# Altium integrated library LPEDT_Component_Lib.IntLib: 25 symbols
Pins are listed as number, name and electrical type; pins without a type are passive.

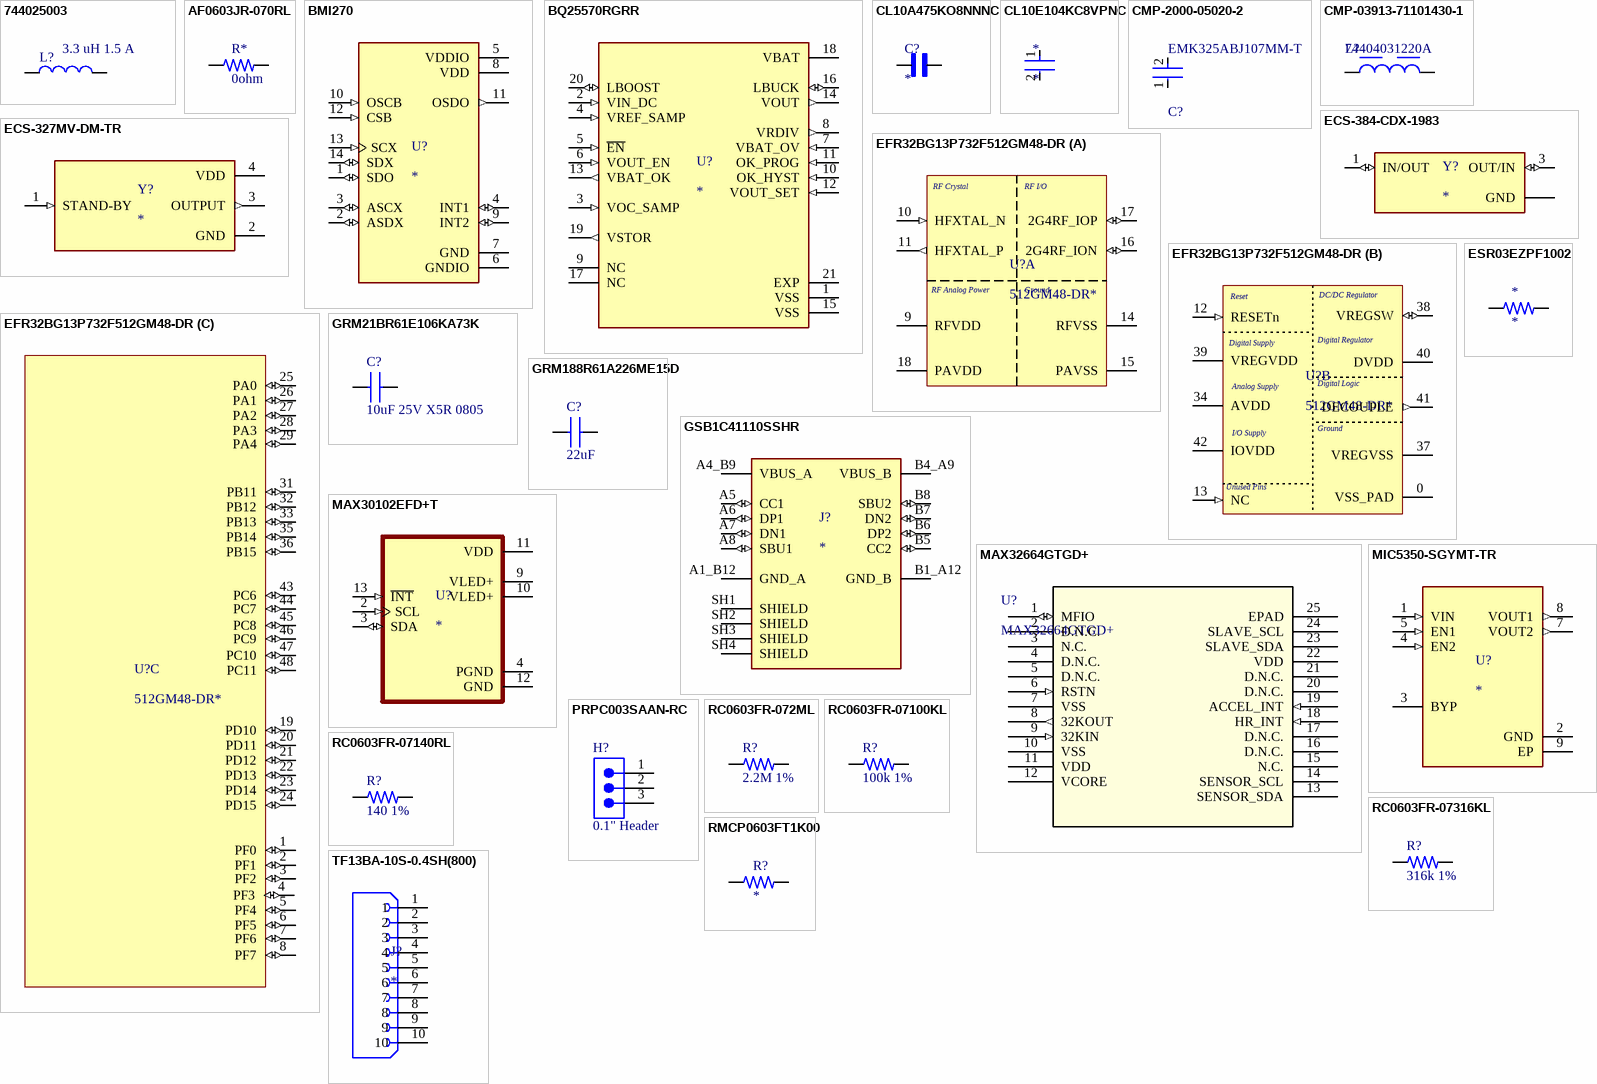
[diagram p0: symbols 744025003 to TF13BA-10S-0.4SH(800)]

## 744025003
designator L?, comment 3.3 uH 1.5 A
Power Choke Shielded Wirewound 3.3uH 20% 100KHz Ferrite 1.5A 101mOhm DCR T/R; Manufacturer: Wurth Elektronik; Manufacturer Part Number: 744025003; DC Resistance (DCR): 85mΩ; Value: 3.3µH; Self Resonant Frequency: 100MHz; Supplier: Newark; Supplier Part Number: 32T8554; RoHS: Compliant; Category: Fixed Inductors; Stock: 513; Pricing: 1=1.79, 10=1.73, 25=1.68, 50=1.62, 100=1.4, 250=1.29 (USD); Ambient Temperature Range High: 85°C; Ambient Temperature Range Low: -40°C; Current Rating: 1.5A; Height: 2.8mm; Inductance Tolerance: 20%; Length: 2.8mm; Max Operating Temperature: 125°C; Min Operating Temperature: -40°C; Pins: 2; Width: 2.8mm; ComponentLink1URL: https://datasheet.octopart.com:443/744025003-Wurth-Elektronik-datasheet-168487805.pdf?src-supplier=Farnell; ComponentLink1Description: https://datasheet.octopart.com:443/744025003-Wurth-Elektronik-datasheet-168487805.pdf?src-supplier=Farnell; ComponentLink2URL: https://datasheet.octopart.com:443/744025003-W%C3%BCrth-Elektronik-datasheet-41342287.pdf?src-supplier=Farnell; ComponentLink2Description: https://datasheet.octopart.com:443/744025003-W%C3%BCrth-Elektronik-datasheet-41342287.pdf?src-supplier=Farnell; ComponentLink3URL: https://datasheet.octopart.com:443/744025003-W%C3%BCrth-Elektronik-datasheet-11538326.pdf?src-supplier=RS+(Formerly+Allied+Electronics); ComponentLink3Description: https://datasheet.octopart.com:443/744025003-W%C3%BCrth-Elektronik-datasheet-11538326.pdf?src-supplier=RS+(Formerly+Allied+Electronics); ComponentLink4URL: https://datasheet.octopart.com:443/744025003-Wurth-Elektronik-datasheet-182429309.pdf?src-supplier=Newark; ComponentLink4Description: https://datasheet.octopart.com:443/744025003-Wurth-Elektronik-datasheet-182429309.pdf?src-supplier=Newark; ComponentLink5URL: https://datasheet.octopart.com:443/744025003-W%C3%BCrth-Elektronik-datasheet-21228163.pdf?src-supplier=Newark; ComponentLink5Description: https://datasheet.octopart.com:443/744025003-W%C3%BCrth-Elektronik-datasheet-21228163.pdf?src-supplier=Newark
footprint IND_2828x30 (Precision Wire Wound Inductor, 2-Leads, Body 2.80x2.80mm, IPC Medium Density)
pins: 1, 2

## AF0603JR-070RL
designator R*, comment 0ohm
100mW Thick Film Resistors 75V ±5% 0Ω 0603 Chip Resistor - Surface Mount ROHS
footprint RES_0603_1608X06
pins: 1, 2

## BMI270
designator U?
Accelerometer, Gyroscope, 6 Axis Sensor IÂ²C, SPI Output; MP: BMI270; MF: Bosch Sensortec; Digi-Key_Part_Number: 828-1091-2-ND; Check_prices: https://www.snapeda.com/parts/BMI270/Bosch+Sensortec/view-part/?ref=eda; Package: LGA-14 Bosch Sensortec; SnapEDA_Link: https://www.snapeda.com/parts/BMI270/Bosch+Sensortec/view-part/?ref=snap; Value: *; Purchase-URL: https://pricing.snapeda.com/search/part/BMI270/?ref=eda
footprint XDCR_BMI270
pins: 1 SDO (io), 2 ASDX (io), 3 ASCX (io), 4 INT1 (io), 5 VDDIO (power), 6 GNDIO (power), 7 GND (power), 8 VDD (power), 9 INT2 (io), 10 OSCB (in), 11 OSDO (out), 12 CSB (in), 13 SCX (in), 14 SDX (io)

## BQ25570RGRR
designator U?
Ultra Low power Harvester power Management IC with boost charger, and Nanopower Buck Converter; MF: Texas Instruments; MP: BQ25570RGRR; Package: VQFN-20 Texas Instruments; Value: *; Purchase-URL: https://pricing.snapeda.com/search/part/BQ25570RGRR/?ref=eda; Availability: In Stock; Check_prices: https://www.snapeda.com/parts/BQ25570RGRR/Texas+Instruments/view-part/?ref=eda; SnapEDA_Link: https://www.snapeda.com/parts/BQ25570RGRR/Texas+Instruments/view-part/?ref=snap; Price: None
footprint QFN50P350X350X100-21N
pins: 1 VSS (power), 2 VIN_DC (in), 3 VOC_SAMP (in), 4 VREF_SAMP (in), 5 ~{EN} (in), 6 VOUT_EN (in), 7 VBAT_OV (in), 8 VRDIV (out), 9 NC, 10 OK_HYST (in), 11 OK_PROG (in), 12 VOUT_SET (in), 13 VBAT_OK (out), 14 VOUT (out), 15 VSS (power), 16 LBUCK (io), 17 NC, 18 VBAT (power), 19 VSTOR (out), 20 LBOOST (io), 21 EXP

## CL10A475KO8NNNC
designator C?
4.7 ÂµF Â±10% 16V Ceramic Capacitor X5R 0603 (1608 Metric); MF: Samsung Electro-Mechanics; MP: CL10A475KO8NNNC; SnapEDA_Link: https://www.snapeda.com/parts/CL10A475KO8NNNC/Samsung/view-part/?ref=snap; Package: SMD-2 Samsung; Value: *; Check_prices: https://www.snapeda.com/parts/CL10A475KO8NNNC/Samsung/view-part/?ref=eda
footprint CAPC1608X90N
pins: 1, 2

## CL10E104KC8VPNC
designator *
Ceramic Capacitor, Multilayer, Ceramic, 100V, 10% +Tol, 10% -Tol, X8L, -40~+15% TC, 100nF, Surface Mount, 0603 inch; Manufacturer: Samsung Electro-Mechanics; Manufacturer Part Number: CL10E104KC8VPNC; Supplier: DigiKey; Supplier Part Number: 1276-CL10E104KC8VPNCCT-ND; RoHS: Compliant; Category: Ceramic Capacitors; Stock: 31004; Pricing: 1=0.25, 10=0.146, 50=0.1056, 100=0.0931, 500=0.07212, 1000=0.06732 (USD); Value: 100nF; Dielectric Material: Ceramic; Height: 800µm; Length: 1.6mm; Lifecycle Status: Production; Max Operating Temperature: 150°C; Min Operating Temperature: -55°C; Mounting Technology: Surface Mount; Number of Terminals: 2; REACH SVHC: Yes; Voltage Rating (DC): 100V; Width: 800µm
footprint CAP_0603_1MM
pins: 1, 2

## CMP-2000-05020-2
designator C?, comment EMK325ABJ107MM-T
CAP CER 100UF 16V X5R 1210; Manufacturer: Taiyo Yuden; Material: Ceramic; Temperature Coefficient: 15%; Tolerance: 20%; Ipc Land Pattern Name: CAPC320250X250; Package: EMK325A-M; Device Class L1: Passive Components; Height: 2.8mm; Device Class L2: Capacitors; Temperature Range Low: -55°C; RoHS: TRUE; Temperature Characteristic: X5R; Mouser Description: 1210 100 uF 16 V ±20% Tolerance X5R SMT Multilayer Ceramic Capacitor; ComponentLink2Description: Datasheet; Temperature: -55°C to +85°C; Device Class L3: Ceramic Capacitors; Capacitance: 100uF; Lead Free: Yes; Category: Cap; Octopart: https://octopart.com/emk325abj107mm-t-taiyo+yuden-20815747; Temperature Range High: +85°C; Automotive: No; Manufacturer Part Number: EMK325ABJ107MM-T; Value: 100uF; Digikey Description: CAP CER 100UF 16V X5R 1210; Voltage Rating: 16V; ComponentLink2URL: https://www.yuden.co.jp/productdata/catalog/mlcc01_e.pdf
footprint FP-1206-L_3_2_0_3-W_1_6_0-IPC_A
pins: 1, 2

## CMP-03913-71101430-1
designator L?, comment 74404031220A
100mW Thick Film Resistors 75V ±5% 0Ω 0603 Chip Resistor - Surface Mount ROHS; NexarPartId: 71101430; Manufacturer: Yageo Group; Manufacturer Part Number: AF0603JR-070RL; RMS Current (Irms): 740mA; Self Resonant Frequency: 36MHz; Inductance: 22µH; DC Resistance (DCR): 420mΩ; Current Rating: 600mA; Inductance Tolerance: 20%; Saturation Current: 430mA; Shielding: Shielded; Test Frequency: 100kHz; RoHS: Compliant; Height - Seated (Max): 1.1938mm; Height: 1.2mm; REACH SVHC: Unknown; Min Operating Temperature: -40°C; Length: 3mm; Width: 3mm; Ambient Temperature Range Low: -40°C; Max Operating Temperature: 125°C; Mount: Surface Mount; Tolerance: 20%; Composition: Wirewound; Case/Package: Nonstandard; Ambient Temperature Range High: 85°C; Supplier: Avnet; Supplier Part Number: 49AK6954; Category: Chip SMD Resistors; Stock: 1554; Pricing: 1=0.104, 25=0.009, 50=0.008, 100=0.007 (USD); China RoHS: Non-Compliant; Features: Anti-Sulfur, Moisture Resistant; Lifecycle Status: Production; Max Power Dissipation: 100mW; Mounting Technology: Surface Mount; Number of Terminals: 2; Number of Terminations: 2; Packaging: Tape & Reel; Power Dissipation: 100mW; Power Rating: 100mW; Value: 0Ω; Voltage Rating: 75V; ComponentLink1URL: https://datasheet.octopart.com:443/AF0603JR-070RL-Yageo-Group-datasheet-182189395.pdf?src-supplier=IHS; ComponentLink1Description: https://datasheet.octopart.com:443/AF0603JR-070RL-Yageo-Group-datasheet-182189395.pdf?src-supplier=IHS; ComponentLink2URL: https://datasheet.octopart.com:443/AF0603JR-070RL-Yageo-datasheet-182189397.pdf?src-supplier=IHS; ComponentLink2Description: https://datasheet.octopart.com:443/AF0603JR-070RL-Yageo-datasheet-182189397.pdf?src-supplier=IHS; ComponentLink3URL: https://datasheet.octopart.com:443/AF0603JR-070RL-Yageo-datasheet-153645569.pdf?src-supplier=Upverter; ComponentLink3Description: https://datasheet.octopart.com:443/AF0603JR-070RL-Yageo-datasheet-153645569.pdf?src-supplier=Upverter; ComponentLink4URL: https://sigma.octopart.com:443/138820526/technical_drawing/Yageo-AF0603JR-070RL.pdf?src-supplier=Upverter; ComponentLink4Description: https://sigma.octopart.com:443/138820526/technical_drawing/Yageo-AF0603JR-070RL.pdf?src-supplier=Upverter; ComponentLink5URL: https://datasheet.octopart.com:443/AF0603JR-070RL-Yageo-Group-datasheet-183876366.pdf?src-supplier=TME; ComponentLink5Description: https://datasheet.octopart.com:443/AF0603JR-070RL-Yageo-Group-datasheet-183876366.pdf?src-supplier=TME; ComponentLink6URL: https://datasheet.octopart.com/AF0603JR-070RL-Yageo-datasheet-68296209.pdf; ComponentLink6Description: https://datasheet.octopart.com/AF0603JR-070RL-Yageo-datasheet-68296209.pdf; ComponentLink7URL: https://datasheet.octopart.com:443/AF0603JR-070RL-Yageo-datasheet-164730775.pdf?src-supplier=Future+Electronics; ComponentLink7Description: https://datasheet.octopart.com:443/AF0603JR-070RL-Yageo-datasheet-164730775.pdf?src-supplier=Future+Electronics; ComponentLink8URL: https://datasheet.octopart.com:443/AF0603JR-070RL-Yageo-datasheet-137315688.pdf?src-supplier=Future+Electronics; ComponentLink8Description: https://datasheet.octopart.com:443/AF0603JR-070RL-Yageo-datasheet-137315688.pdf?src-supplier=Future+Electronics; ComponentLink9URL: https://datasheet.octopart.com:443/AF0603JR-070RL-Yageo-datasheet-137481464.pdf?src-supplier=Future+Electronics; ComponentLink9Description: https://datasheet.octopart.com:443/AF0603JR-070RL-Yageo-datasheet-137481464.pdf?src-supplier=Future+Electronics; ComponentLink10URL: http://sigma.octopart.com:80/rohs_statement/Yageo-company-2.pdf?src-supplier=Compliance+Statements; ComponentLink10Description: http://sigma.octopart.com:80/rohs_statement/Yageo-company-2.pdf?src-supplier=Compliance+Statements; ComponentLink11URL: http://sigma.octopart.com:80/conflict_mineral_statement/Yageo-company-3.pdf?src-supplier=Compliance+Statements; ComponentLink11Description: http://sigma.octopart.com:80/conflict_mineral_statement/Yageo-company-3.pdf?src-supplier=Compliance+Statements
footprint WE-LQS_3012 (SMD Power Inductor, 2-Leads, body 3x3mm)
pins: 1, 2

## ECS-327MV-DM-TR
designator Y?
32.768 kHz XO (Standard) CMOS Oscillator Enable/Disable 4-SMD, No Lead; MF: ECS Inc.; MP: ECS-327MV-DM-TR; Purchase-URL: https://pricing.snapeda.com/search/part/ECS-327MV-DM-TR/?ref=eda; SnapEDA_Link: https://www.snapeda.com/parts/ECS-327MV-DM-TR/ECS+Inc./view-part/?ref=snap; Value: *; Package: None; Check_prices: https://www.snapeda.com/parts/ECS-327MV-DM-TR/ECS+Inc./view-part/?ref=eda; Digi-Key_Part_Number: 50-ECS-327MV-DM-TR-ND
footprint OSC_ECS-327MV-DM-TR-4
pins: 1 STAND-BY (in), 2 GND (power), 3 OUTPUT (out), 4 VDD (power)

## ECS-384-CDX-1983
designator Y?
MP: ECS-384-CDX-1983; Package: None; Price: None; Value: *; Availability: Unavailable
footprint XTAL_ECS-384-CDX-1983
pins: 1 IN/OUT (io), 2 GND (power), 3 OUT/IN (io), 4 GND (power)

## EFR32BG13P732F512GM48-DR
designator U?, comment 512GM48-DR*
Blue Gecko QFN48 2.4 G 19 dB BLE/Proprietary 512 kB 64 kB(RAM) 31GPIO; Manufacturer: Silicon Labs; Manufacturer Part Number: EFR32BG13P732F512GM48-DR; Manufacturer Lifecycle Status: FULL PRODUCTION; Flash Memory Size: 512kB; Max Supply Voltage: 3.8V; Min Supply Voltage: 1.8V; Number of Digital IO: 31; Number of I2C Channels: 2; Number of SPI Channels: 3; Number of UART Channels: 8; Number of USART Channels: 4; Operating Supply Voltage: 3.3V; RAM Size: 64kB; Supplier: DigiKey; Supplier Part Number: 336-EFR32BG13P732F512GM48-DRCT-ND; RoHS: Compliant; Category: System on Chip (SoC); Stock: 8802; Pricing: 1=7.38, 10=6.396, 25=6.0548, 100=5.586, 250=5.30508, 500=5.10674, 1000=4.91994 (USD); Height - Seated (Max): 900µm; Length: 7mm; Lifecycle Status: Production; Max Operating Temperature: 85°C; Min Operating Temperature: -40°C; Number of GPIO: 31; Number of Terminals: 48; Terminal Pitch: 500µm; Width: 7mm; ComponentLink1URL: https://datasheet.octopart.com:443/EFR32BG13P732F512GM48-DR-Silicon-Labs-datasheet-180782262.pdf?src-supplier=IHS; ComponentLink1Description: https://datasheet.octopart.com:443/EFR32BG13P732F512GM48-DR-Silicon-Labs-datasheet-180782262.pdf?src-supplier=IHS; ComponentLink2URL: https://datasheet.octopart.com:443/EFR32BG13P732F512GM48-DR-Silicon-Labs-datasheet-150822224.pdf?src-supplier=Silicon+Labs; ComponentLink2Description: https://datasheet.octopart.com:443/EFR32BG13P732F512GM48-DR-Silicon-Labs-datasheet-150822224.pdf?src-supplier=Silicon+Labs; ComponentLink3URL: https://datasheet.octopart.com:443/EFR32BG13P732F512GM48-DR-Silicon-Labs-datasheet-142345357.pdf?src-supplier=Silicon+Labs+SCT; ComponentLink3Description: https://datasheet.octopart.com:443/EFR32BG13P732F512GM48-DR-Silicon-Labs-datasheet-142345357.pdf?src-supplier=Silicon+Labs+SCT; ComponentLink4URL: https://datasheet.octopart.com:443/EFR32BG13P732F512GM48-DR-Silicon-Labs-datasheet-150822225.pdf?src-supplier=Farnell; ComponentLink4Description: https://datasheet.octopart.com:443/EFR32BG13P732F512GM48-DR-Silicon-Labs-datasheet-150822225.pdf?src-supplier=Farnell
footprint QFN_48_7x7 (BLUE GECKO QFN48 2.4GHz 512KB 6)
part A pins: 9 RFVDD (power) "Radio power supply", 10 HFXTAL_N  (in) "High Frequency Crystal input pin.", 11 HFXTAL_P (out) "High Frequency Crystal output pin.", 14 RFVSS (power) "Radio Ground", 15 PAVSS (power) "Power Amplifier (PA) voltage regulator / VSS", 16 2G4RF_ION (io) "2.4 GHz Differential RF input/output, / negative path. This pin should be externally grounded.", 17 2G4RF_IOP (io) "2.4 GHz Differential RF input/output, / positive path.", 18 PAVDD (power) "Power Amplifier (PA) voltage regulator / VDD input"
part B pins: 0 VSS_PAD (power) "Ground", 12 RESETn (in) "Reset input, active low. This pin is internally / pulled up to AVDD. To apply an / external reset source to this pin, it is required / to only drive this pin low during / reset, and let the internal pull-up ensure / that reset is released.", 13 NC (in) "No Connect", 34 AVDD (power) "Analog power supply.", 37 VREGVSS (power) "Voltage regulator VSS", 38 VREGSW (io) "DCDC regulator switching node", 39 VREGVDD (power) "Voltage regulator VDD input", 40 DVDD (power) "Digital power supply.", 41 DECOUPLE (out) "Decouple output for on-chip voltage / regulator. An external decoupling capacitor / is required at this pin. This pin / should not be used to power any external / circuits.", 42 IOVDD (power) "Digital IO power supply."
part C pins: 1 PF0 (io) "GPIO", 2 PF1 (io) "GPIO", 3 PF2 (io) "GPIO", 4 PF3 (io) "GPIO", 5 PF4 (io) "GPIO", 6 PF5 (io) "GPIO", 7 PF6 (io) "GPIO", 8 PF7 (io) "GPIO", 19 PD10 (io) "GPIO", 20 PD11 (io) "GPIO", 21 PD12 (io) "GPIO", 22 PD13 (io) "GPIO", 23 PD14 (io) "GPIO", 24 PD15 (io) "GPIO", 25 PA0 (io) "GPIO", 26 PA1 (io) "GPIO", 27 PA2 (io) "GPIO", 28 PA3 (io) "GPIO", 29 PA4 (io) "GPIO", 31 PB11 (io) "GPIO", 32 PB12 (io) "GPIO", 33 PB13 (io) "GPIO", 35 PB14 (io) "GPIO", 36 PB15 (io) "GPIO", 43 PC6 (io) "GPIO", 44 PC7 (io) "GPIO", 45 PC8 (io) "GPIO", 46 PC9 (io) "GPIO", 47 PC10 (io) "GPIO", 48 PC11 (io) "GPIO"
part A text: RF Crystal; RF I/O; RF Analog Power; Ground
part B text: Reset; DC/DC Regulator; Digital Supply; Digital Regulator; Analog Supply; Digital Logic; I/O Supply; Ground; Unused Pins

## ESR03EZPF1002
designator *
Res Thick Film 0603 10K Ohm 1% 0.25W(1/4W) ±100ppm/C Epoxy Resin Pad SMD Automotive T/R; Manufacturer: ROHM; Manufacturer Part Number: ESR03EZPF1002; Max Power Dissipation: 250mW; Value: 10kΩ; Temperature Coefficient: 100ppm/°C; Voltage Rating (DC): 150V; Supplier: DigiKey; Supplier Part Number: RHM10KADCT-ND; RoHS: Compliant; Category: Chip SMD Resistors; Stock: 1713898; Pricing: 1=0.15, 10=0.075, 25=0.0584, 50=0.049, 100=0.0418, 250=0.03444, 500=0.03024, 1000=0.02693 (USD); Case/Package: 0603; Case Code (Imperial): 0603; Case Code (Metric): 1608; Composition: Thick Film; Features: Automotive AEC-Q200; Height: 450µm; Lead Free: Lead Free; Length: 1.6002mm; Lifecycle Status: Production; Max Operating Temperature: 155°C; Min Operating Temperature: -55°C; Mounting Technology: Surface Mount; Number of Terminals: 2; Number of Terminations: 2; Packaging: Cut Tape (CT); Power Dissipation: 250mW; Power Rating: 250mW; REACH SVHC: Yes; Tolerance: 1%; Width: 800µm; Working Voltage: 150V; ComponentLink1URL: https://datasheet.octopart.com:443/ESR03EZPF1002-ROHM-datasheet-182147623.pdf?src-supplier=IHS; ComponentLink1Description: https://datasheet.octopart.com:443/ESR03EZPF1002-ROHM-datasheet-182147623.pdf?src-supplier=IHS; ComponentLink2URL: https://datasheet.octopart.com:443/ESR03EZPF1002-Rohm-datasheet-138897445.pdf?src-supplier=Upverter; ComponentLink2Description: https://datasheet.octopart.com:443/ESR03EZPF1002-Rohm-datasheet-138897445.pdf?src-supplier=Upverter; ComponentLink3URL: https://datasheet.octopart.com:443/ESR03EZPF1002-Rohm-datasheet-112214108.pdf?src-supplier=Newark; ComponentLink3Description: https://datasheet.octopart.com:443/ESR03EZPF1002-Rohm-datasheet-112214108.pdf?src-supplier=Newark; ComponentLink4URL: https://datasheet.octopart.com:443/ESR03EZPF1002-Rohm-datasheet-98864137.pdf?src-supplier=Future+Electronics; ComponentLink4Description: https://datasheet.octopart.com:443/ESR03EZPF1002-Rohm-datasheet-98864137.pdf?src-supplier=Future+Electronics; ComponentLink5URL: https://datasheet.octopart.com:443/ESR03EZPF1002-Rohm-datasheet-79607656.pdf?src-supplier=Future+Electronics; ComponentLink5Description: https://datasheet.octopart.com:443/ESR03EZPF1002-Rohm-datasheet-79607656.pdf?src-supplier=Future+Electronics; ComponentLink6URL: https://datasheet.octopart.com:443/ESR03EZPF1002-Rohm-datasheet-13205105.pdf?src-supplier=Future+Electronics; ComponentLink6Description: https://datasheet.octopart.com:443/ESR03EZPF1002-Rohm-datasheet-13205105.pdf?src-supplier=Future+Electronics; ComponentLink7URL: https://datasheet.octopart.com:443/ESR03EZPF1002-Rohm-datasheet-12521351.pdf?src-supplier=Future+Electronics; ComponentLink7Description: https://datasheet.octopart.com:443/ESR03EZPF1002-Rohm-datasheet-12521351.pdf?src-supplier=Future+Electronics
footprint RES_0603_1608X06
pins: 1, 2

## GRM21BR61E106KA73K
designator C?, comment 10uF 25V X5R 0805
Ceramic Capacitor, Ceramic, 25V, 10% +Tol, 10% -Tol, X5R, 15% TC, 10uF, Surface Mount, 0805; Manufacturer: Murata; Manufacturer Part Number: GRM21BR61E106KA73K; Manufacturer Lifecycle Status: IN PRODUCTION; Value: 10µF; Supplier: Avnet; Supplier Part Number: GRM21BR61E106KA73K; RoHS: Compliant; Category: Ceramic Capacitors; Stock: 54000; Pricing: 10000=0.01987, 20000=0.01911, 40000=0.01892, 60000=0.01882, 80000=0.01872 (USD); Case/Package: 0805; Dielectric: X5R; Dielectric Material: Ceramic; Height: 1.25mm; Length: 2mm; Lifecycle Status: Production; Material: Ceramic; Max Operating Temperature: 85°C; Min Operating Temperature: -55°C; Mounting Technology: Surface Mount; Number of Terminals: 2; Packaging: Tape & Reel (TR); REACH SVHC: Yes; Schedule B: 8532240020, 8532240020|8532240020, 8532240020|8532240020|8532240020, 8532240020|8532240020|8532240020|8532240020; Thickness: 1.25mm; Tolerance: 10%; Voltage Rating: 25V; Voltage Rating (DC): 25V; Weight: 9.49709mg; Width: 1.25mm; ComponentLink1URL: https://datasheet.octopart.com:443/GRM21BR61E106KA73K-Murata-datasheet-149523495.pdf?src-supplier=Newark; ComponentLink1Description: https://datasheet.octopart.com:443/GRM21BR61E106KA73K-Murata-datasheet-149523495.pdf?src-supplier=Newark; ComponentLink2URL: https://datasheet.octopart.com:443/GRM21BR61E106KA73K-Murata-datasheet-141278247.pdf?src-supplier=Geoflip; ComponentLink2Description: https://datasheet.octopart.com:443/GRM21BR61E106KA73K-Murata-datasheet-141278247.pdf?src-supplier=Geoflip; ComponentLink3URL: https://datasheet.octopart.com:443/GRM21BR61E106KA73K-Murata-datasheet-165579666.pdf?src-supplier=TME; ComponentLink3Description: https://datasheet.octopart.com:443/GRM21BR61E106KA73K-Murata-datasheet-165579666.pdf?src-supplier=TME; ComponentLink4URL: https://datasheet.octopart.com:443/GRM21BR61E106KA73K-Murata-datasheet-140707569.pdf?src-supplier=Ciiva; ComponentLink4Description: https://datasheet.octopart.com:443/GRM21BR61E106KA73K-Murata-datasheet-140707569.pdf?src-supplier=Ciiva; ComponentLink5URL: https://datasheet.octopart.com:443/GRM21BR61E106KA73K-Murata-datasheet-138744870.pdf?src-supplier=Ciiva; ComponentLink5Description: https://datasheet.octopart.com:443/GRM21BR61E106KA73K-Murata-datasheet-138744870.pdf?src-supplier=Ciiva; ComponentLink6URL: https://datasheet.octopart.com:443/GRM21BR61E106KA73K-Murata-datasheet-99353849.pdf?src-supplier=Future+Electronics; ComponentLink6Description: https://datasheet.octopart.com:443/GRM21BR61E106KA73K-Murata-datasheet-99353849.pdf?src-supplier=Future+Electronics; ComponentLink7URL: https://datasheet.octopart.com/GRM21BR61E106KA73K-Murata-datasheet-12515295.pdf; ComponentLink7Description: https://datasheet.octopart.com/GRM21BR61E106KA73K-Murata-datasheet-12515295.pdf; ComponentLink8URL: https://datasheet.octopart.com/GRM21BR61E106KA73K-Murata-datasheet-12510076.pdf; ComponentLink8Description: https://datasheet.octopart.com/GRM21BR61E106KA73K-Murata-datasheet-12510076.pdf; ComponentLink9URL: https://datasheet.octopart.com/GRM21BR61E106KA73K-Murata-datasheet-11978611.pdf; ComponentLink9Description: https://datasheet.octopart.com/GRM21BR61E106KA73K-Murata-datasheet-11978611.pdf; ComponentLink10URL: https://datasheet.octopart.com/GRM21BR61E106KA73K-Murata-datasheet-10025737.pdf; ComponentLink10Description: https://datasheet.octopart.com/GRM21BR61E106KA73K-Murata-datasheet-10025737.pdf; ComponentLink11URL: https://datasheet.octopart.com/GRM21BR61E106KA73K-Murata-datasheet-8819587.pdf; ComponentLink11Description: https://datasheet.octopart.com/GRM21BR61E106KA73K-Murata-datasheet-8819587.pdf; ComponentLink12URL: https://datasheet.octopart.com/GRM21BR61E106KA73K-Murata-datasheet-14397508.pdf; ComponentLink12Description: https://datasheet.octopart.com/GRM21BR61E106KA73K-Murata-datasheet-14397508.pdf; ComponentLink13URL: http://sigma.octopart.com:80/reach_statement/Murata-company-16.pdf?src-supplier=Compliance+Statements; ComponentLink13Description: http://sigma.octopart.com:80/reach_statement/Murata-company-16.pdf?src-supplier=Compliance+Statements
footprint CAP_0805 (Chip Capacitor, 2-Leads, Body 2.00x1.23mm, IPC Medium Density)
pins: 1, 2

## GRM188R61A226ME15D
designator C?, comment 22uF
CAP CER 22UF 10V X5R 0603; Manufacturer: Murata; Manufacturer Part Number: GRM188R61A226ME15D; Voltage Rating DC: 10 VDC; Tolerance: 20 %; Brand: Murata Electronics; Type: Voltage and Temperature Derating Recommended Product; Unit Weight: 0.000222 oz; Supplier 1: Digi-Key; Supplier Part Number 1: 490-10476-1-ND; Stock 1: 849458; Pricing 1: 1=0.33, 10=0.226, 50=0.1506, 100=0.1279, 500=0.0903, 1000=0.079 (USD); Product Category: Multilayer Ceramic Capacitors MLCC - SMD/SMT; RoHS: True; Capacitance: 22 uF; Dielectric: X5R; Case Code - in: 0603; Case Code - mm: 1608; Height: 0.8 mm; Maximum Operating Temperature: + 85 C; Minimum Operating Temperature: - 55 C; Product: General Type MLCCs; Series: GRM; Packaging: Reel; Length: 1.6 mm; Package / Case: 0603 (1608 metric); Factory Pack Quantity: 4000; Termination Style: SMD/SMT; Width: 0.8 mm; ComponentLink1URL: http://www.farnell.com/datasheets/2047978.pdf?src-supplier=Element14; ComponentLink1Description: http://www.farnell.com/datasheets/2047978.pdf?src-supplier=Element14
footprint CAP_0603_1MM (Chip Capacitor, 2-Leads, Body 1.60x0.80mm, IPC Medium Density)
pins: 1, 2

## GSB1C41110SSHR
designator J?
USB2.0, Type C, Top mount, Center Height 1.63mm, Single Row Surface Mount; MF: Amphenol Canada; MP: GSB1C41110SSHR; SnapEDA_Link: https://www.snapeda.com/parts/GSB1C41110SSHR/Amphenol/view-part/?ref=snap; Package: None; Value: *; Check_prices: https://www.snapeda.com/parts/GSB1C41110SSHR/Amphenol/view-part/?ref=eda
footprint AMPHENOL_GSB1C41110SSHR
pins: A1_B12 GND_A (power), A4_B9 VBUS_A (power), A5 CC1 (io), A6 DP1 (io), A7 DN1 (io), A8 SBU1 (io), B1_A12 GND_B (power), B4_A9 VBUS_B (power), B5 CC2 (io), B6 DP2 (io), B7 DN2 (io), B8 SBU2 (io), SH1 SHIELD, SH2 SHIELD, SH3 SHIELD, SH4 SHIELD

## MAX30102EFD+T
designator U?
Pulse Oximeter and Heart Rate Sensor Digital Output; MP: MAX30102EFD+T; MF: Maxim Integrated Products; Digi-Key_Part_Number: MAX30102EFD+TTR-ND; Check_prices: https://www.snapeda.com/parts/MAX30102EFD+T/Maxim+Integrated/view-part/?ref=eda; Package: None; SnapEDA_Link: https://www.snapeda.com/parts/MAX30102EFD+T/Maxim+Integrated/view-part/?ref=snap; Value: *; Purchase-URL: https://pricing.snapeda.com/search/part/MAX30102EFD+T/?ref=eda
footprint XDCR_MAX30101EFD+
pins: 2 SCL (in), 3 SDA (io), 4 PGND (power), 9 VLED+ (power), 10 VLED+ (power), 11 VDD (power), 12 GND (power), 13 ~{INT} (in)

## MAX32664GTGD+
designator U?
Ultra-Low Power Biometric Sensor Hub; Manufacturer_Name: Analog Devices Inc; Copyright: Copyright (C) 2025 Ultra Librarian. All rights reserved.; Manufacturer_Part_Number: MAX32664GTGD+; RefDes: RefDes; Type: Type
footprint 21-100264_T2433+2C_MXM
pins: 1 MFIO (io), 2 D.N.C., 3 N.C., 4 D.N.C., 5 D.N.C., 6 RSTN (in), 7 VSS (power), 8 32KOUT (out), 9 32KIN (in), 10 VSS (power), 11 VDD (power), 12 VCORE (power), 13 SENSOR_SDA, 14 SENSOR_SCL, 15 N.C., 16 D.N.C., 17 D.N.C., 18 HR_INT (in), 19 ACCEL_INT (in), 20 D.N.C., 21 D.N.C., 22 VDD (power), 23 SLAVE_SDA, 24 SLAVE_SCL, 25 EPAD (power)

## MIC5350-SGYMT-TR
designator U?
Linear Voltage Regulator IC Positive Fixed 2 Output 300mA, 500mA 8-TMLFÂ® (2x2); MF: Microchip; MP: MIC5350-SGYMT-TR; SnapEDA_Link: https://www.snapeda.com/parts/MIC5350-SGYMT-TR/Microchip/view-part/?ref=snap; Package: UFDFN-8 Microchip; Value: *; Check_prices: https://www.snapeda.com/parts/MIC5350-SGYMT-TR/Microchip/view-part/?ref=eda
footprint SON50P200X200X60-9N
pins: 1 VIN (in), 2 GND (power), 3 BYP, 4 EN2 (in), 5 EN1 (in), 7 VOUT2 (out), 8 VOUT1 (out), 9 EP (power)

## PRPC003SAAN-RC
designator H?, comment 0.1" Header
CONN HEADER VERT 3POS 2.54MM; Manufacturer: Sullins; Manufacturer Part Number: PRPC003SAAN-RC; Connector Type: Header, Unshrouded, Breakaway; Number of Positions: 3; Number of Positions Loaded: All; Pitch: 0.100" (2.54mm); Online Catalog: 0.100" (2.54mm) Pitch Connector Headers; Other Names: S9510E-03  S9510E-03-ND; Supplier 1: Digi-Key; Stock 1: 19067; Pricing 1: 1=0.12, 10=0.109, 25=0.0812, 50=0.0696, 100=0.0673, 250=0.058, 500=0.0557 (USD); Standard Package: 1; Category: Connectors, Interconnects; Family: Rectangular Connectors - Headers, Male Pins; Series: -; Packaging: Bulk; Contact Type: Male Pin; Number of Rows: 1; Row Spacing: -; Contact Mating Length: 0.230" (5.84mm); Mounting Type: Through Hole; Termination: Solder; Fastening Type: -; Features: -; Contact Finish: Gold; Contact Finish Thickness: Flash; Color: Black; ComponentLink1URL: https://media.digikey.com/PDF/Data%20Sheets/Sullins%20PDFs/xRxCzzzSxxN-RC_ST_11635-B.pdf?src-supplier=Digi-Key; ComponentLink1Description: https://media.digikey.com/PDF/Data%20Sheets/Sullins%20PDFs/xRxCzzzSxxN-RC_ST_11635-B.pdf?src-supplier=Digi-Key; Supplier Part Number 1: S1011EC-03-ND
footprint 3-PIN_MALE_HEADER_01-IN (.025 SQ Post Terminal Strip Assembly, 1x3 Pins, Vertical, 2.54mm Pitch, Male)
pins: 1, 2, 3

## RC0603FR-072ML
designator R?, comment 2.2M 1%
100mW Thick Film Resistors 75V ±100ppm/℃ ±1% 2MΩ 0603 Chip Resistor - Surface Mount ROHS; Manufacturer: Yageo Group; Manufacturer Part Number: RC0603FR-072ML; Temperature Coefficient: 100ppm/°C; Voltage Rating (DC): 50V; Supplier: Avnet; Supplier Part Number: 49AK1931; RoHS: Compliant; Category: Chip SMD Resistors; Stock: 4010; Pricing: 1=0.104, 25=0.009, 50=0.008, 100=0.006 (USD); Case/Package: 0603; Case Code (Imperial): 0603; China RoHS: Non-Compliant; Composition: Thick Film; Depth: 800µm; Features: Moisture Resistant; Height: 450µm; Lead Free: Lead Free; Length: 1.6mm; Lifecycle Status: Production; Max Operating Temperature: 155°C; Max Power Dissipation: 100mW; Min Operating Temperature: -55°C; Mounting Technology: Surface Mount; Number of Terminals: 2; Number of Terminations: 2; Packaging: Tape & Reel; Power Dissipation: 100mW; Power Rating: 100mW; REACH SVHC: Yes; Value: 2MΩ; Schedule B: 8533210045, 8533210045|8533210045, 8533210045|8533210045|8533210045, 8533210045|8533210045|8533210045|8533210045; Termination: SMD/SMT; Tolerance: 1%; Voltage Rating: 75V; Weight: 2.012816mg; Width: 800µm; Working Voltage: 75V; ComponentLink1URL: https://datasheet.octopart.com:443/RC0603FR-072ML-Yageo-datasheet-175887523.pdf?src-supplier=Newark; ComponentLink1Description: https://datasheet.octopart.com:443/RC0603FR-072ML-Yageo-datasheet-175887523.pdf?src-supplier=Newark; ComponentLink2URL: https://datasheet.octopart.com:443/RC0603FR-072ML-Yageo-datasheet-103092701.pdf?src-supplier=Upverter; ComponentLink2Description: https://datasheet.octopart.com:443/RC0603FR-072ML-Yageo-datasheet-103092701.pdf?src-supplier=Upverter; ComponentLink3URL: https://datasheet.octopart.com:443/RC0603FR-072ML-Yageo-datasheet-141435368.pdf?src-supplier=Upverter; ComponentLink3Description: https://datasheet.octopart.com:443/RC0603FR-072ML-Yageo-datasheet-141435368.pdf?src-supplier=Upverter; ComponentLink4URL: https://datasheet.octopart.com:443/RC0603FR-072ML-Yageo-datasheet-8328172.pdf?src-supplier=Burklin+Elektronik; ComponentLink4Description: https://datasheet.octopart.com:443/RC0603FR-072ML-Yageo-datasheet-8328172.pdf?src-supplier=Burklin+Elektronik; ComponentLink5URL: https://datasheet.octopart.com:443/RC0603FR-072ML-Yageo-datasheet-164759695.pdf?src-supplier=Future+Electronics; ComponentLink5Description: https://datasheet.octopart.com:443/RC0603FR-072ML-Yageo-datasheet-164759695.pdf?src-supplier=Future+Electronics; ComponentLink6URL: https://datasheet.octopart.com:443/RC0603FR-072ML-Yageo-datasheet-137700087.pdf?src-supplier=Future+Electronics; ComponentLink6Description: https://datasheet.octopart.com:443/RC0603FR-072ML-Yageo-datasheet-137700087.pdf?src-supplier=Future+Electronics; ComponentLink7URL: https://datasheet.octopart.com:443/RC0603FR-072ML-Yageo-datasheet-127823281.pdf?src-supplier=Future+Electronics; ComponentLink7Description: https://datasheet.octopart.com:443/RC0603FR-072ML-Yageo-datasheet-127823281.pdf?src-supplier=Future+Electronics; ComponentLink8URL: https://datasheet.octopart.com:443/RC0603FR-072ML-Yageo-datasheet-15599030.pdf?src-supplier=Future+Electronics; ComponentLink8Description: https://datasheet.octopart.com:443/RC0603FR-072ML-Yageo-datasheet-15599030.pdf?src-supplier=Future+Electronics; ComponentLink9URL: https://datasheet.octopart.com:443/RC0603FR-072ML-Yageo-datasheet-12596169.pdf?src-supplier=Future+Electronics; ComponentLink9Description: https://datasheet.octopart.com:443/RC0603FR-072ML-Yageo-datasheet-12596169.pdf?src-supplier=Future+Electronics; ComponentLink10URL: https://datasheet.octopart.com:443/RC0603FR-072ML-Yageo-datasheet-148775077.pdf?src-supplier=TME; ComponentLink10Description: https://datasheet.octopart.com:443/RC0603FR-072ML-Yageo-datasheet-148775077.pdf?src-supplier=TME; ComponentLink11URL: https://datasheet.octopart.com/RC0603FR-072ML-Yageo-datasheet-73766026.pdf; ComponentLink11Description: https://datasheet.octopart.com/RC0603FR-072ML-Yageo-datasheet-73766026.pdf; ComponentLink12URL: https://datasheet.octopart.com:443/RC0603FR-072ML-Yageo-datasheet-30459151.pdf?src-supplier=Seeed+Studio; ComponentLink12Description: https://datasheet.octopart.com:443/RC0603FR-072ML-Yageo-datasheet-30459151.pdf?src-supplier=Seeed+Studio; ComponentLink13URL: https://datasheet.octopart.com:443/RC0603FR-072ML-Yageo-datasheet-118562.pdf?src-supplier=DigiKey; ComponentLink13Description: https://datasheet.octopart.com:443/RC0603FR-072ML-Yageo-datasheet-118562.pdf?src-supplier=DigiKey; ComponentLink14URL: http://sigma.octopart.com:80/conflict_mineral_statement/Yageo-company-3.pdf?src-supplier=Compliance+Statements; ComponentLink14Description: http://sigma.octopart.com:80/conflict_mineral_statement/Yageo-company-3.pdf?src-supplier=Compliance+Statements; ComponentLink15URL: http://sigma.octopart.com:80/rohs_statement/Yageo-company-2.pdf?src-supplier=Compliance+Statements; ComponentLink15Description: http://sigma.octopart.com:80/rohs_statement/Yageo-company-2.pdf?src-supplier=Compliance+Statements
footprint RES_0603_1608X06 (Chip Resistor, 2-Leads, Body 1.60x0.80mm, IPC Medium Density)
pins: 1, 2

## RC0603FR-07100KL
designator R?, comment 100k 1%
RES SMD 100K OHM 1% 1/10W 0603; Manufacturer: Yageo; Manufacturer Part Number: RC0603FR-07100KL; Resistance: 100 kOhms; Power Rating: 100 mW; Voltage Rating: 50 V; Temperature Coefficient: 100 PPM / C; Supplier 1: Digi-Key; Supplier Part Number 1: 311-100KHRCT-ND; Stock 1: 13478446; Pricing 1: 1=0.1, 10=0.022, 100=0.009, 1000=0.0041, 2500=0.0035 (USD); Termination Style: SMD/SMT; Product: Thick Film Resistors General Purpose; Tolerance: 1 %; Case Code - in: 0603; Case Code - mm: 1608; Series: RC; Operating Temperature Range: - 55 C to + 155 C; Packaging: Reel; ComponentLink1URL: http://www.farnell.com/datasheets/2167052.pdf?src-supplier=Element14; ComponentLink1Description: http://www.farnell.com/datasheets/2167052.pdf?src-supplier=Element14; ComponentLink2URL: http://www.farnell.com/datasheets/1868787.pdf?src-supplier=Element14; ComponentLink2Description: http://www.farnell.com/datasheets/1868787.pdf?src-supplier=Element14; ComponentLink3URL: http://documents.rs-components.com/techlib://itc_doclist_GB.htm?stockno=5048940&src-supplier=RSComponents; ComponentLink3Description: http://documents.rs-components.com/techlib://itc_doclist_GB.htm?stockno=5048940&src-supplier=RSComponents; ComponentLink4URL: http://www.farnell.com/datasheets/443971.pdf?src-supplier=Element14; ComponentLink4Description: http://www.farnell.com/datasheets/443971.pdf?src-supplier=Element14
footprint RES_0603_1608X06 (Chip Resistor, 2-Leads, Body 1.60x0.80mm, IPC Medium Density)
pins: 1, 2

## RC0603FR-07140RL
designator R?, comment 140 1%
Res Thick Film 0603 140 Ohm 1% 0.1W(1/10W) ±100ppm/C Pad SMD T/R; Manufacturer: Yageo Group; Manufacturer Part Number: RC0603FR-07140RL; Power Dissipation: 100mW; Value: 140Ω; Temperature Coefficient: 100ppm/°C; Voltage Rating: 75V; Voltage Rating (DC): 50V; Supplier: Avnet; Supplier Part Number: RC0603FR-07140RL; RoHS: Compliant; Category: Chip SMD Resistors; Stock: 5000; Pricing: 5000=0.00133, 10000=0.0013, 20000=0.00127, 30000=0.00125, 40000=0.00123 (USD); Case/Package: 0603; Case Code (Imperial): 0603; China RoHS: Non-Compliant; Composition: Thick Film; Depth: 800µm; Height: 450µm; Lead Free: Lead Free; Length: 1.6mm; Lifecycle Status: Production; Max Operating Temperature: 155°C; Military Standard: Not; Min Operating Temperature: -55°C; Mounting Technology: Surface Mount; Number of Terminals: 2; Packaging: Tape & Reel; Power Rating: 100mW; REACH SVHC: Yes; Schedule B: 8533210045, 8533210045|8533210045, 8533210045|8533210045|8533210045, 8533210045|8533210045|8533210045|8533210045; Termination: SMD/SMT; Tolerance: 1%; Width: 800µm; Working Voltage: 75V; ComponentLink1URL: https://datasheet.octopart.com:443/RC0603FR-07140RL-Yageo-datasheet-175887523.pdf?src-supplier=IHS; ComponentLink1Description: https://datasheet.octopart.com:443/RC0603FR-07140RL-Yageo-datasheet-175887523.pdf?src-supplier=IHS; ComponentLink2URL: https://datasheet.octopart.com:443/RC0603FR-07140RL-Yageo-datasheet-103092701.pdf?src-supplier=Upverter; ComponentLink2Description: https://datasheet.octopart.com:443/RC0603FR-07140RL-Yageo-datasheet-103092701.pdf?src-supplier=Upverter; ComponentLink3URL: https://datasheet.octopart.com:443/RC0603FR-07140RL-Yageo-datasheet-164759695.pdf?src-supplier=Future+Electronics; ComponentLink3Description: https://datasheet.octopart.com:443/RC0603FR-07140RL-Yageo-datasheet-164759695.pdf?src-supplier=Future+Electronics; ComponentLink4URL: https://datasheet.octopart.com:443/RC0603FR-07140RL-Yageo-datasheet-137700087.pdf?src-supplier=Future+Electronics; ComponentLink4Description: https://datasheet.octopart.com:443/RC0603FR-07140RL-Yageo-datasheet-137700087.pdf?src-supplier=Future+Electronics; ComponentLink5URL: https://datasheet.octopart.com:443/RC0603FR-07140RL-Yageo-datasheet-15599030.pdf?src-supplier=Future+Electronics; ComponentLink5Description: https://datasheet.octopart.com:443/RC0603FR-07140RL-Yageo-datasheet-15599030.pdf?src-supplier=Future+Electronics; ComponentLink6URL: https://datasheet.octopart.com:443/RC0603FR-07140RL-Yageo-datasheet-12596169.pdf?src-supplier=Future+Electronics; ComponentLink6Description: https://datasheet.octopart.com:443/RC0603FR-07140RL-Yageo-datasheet-12596169.pdf?src-supplier=Future+Electronics; ComponentLink7URL: https://datasheet.octopart.com:443/RC0603FR-07140RL-Yageo-datasheet-8328172.pdf?src-supplier=Future+Electronics; ComponentLink7Description: https://datasheet.octopart.com:443/RC0603FR-07140RL-Yageo-datasheet-8328172.pdf?src-supplier=Future+Electronics; ComponentLink8URL: https://datasheet.octopart.com:443/RC0603FR-07140RL-Yageo-datasheet-148775077.pdf?src-supplier=TME; ComponentLink8Description: https://datasheet.octopart.com:443/RC0603FR-07140RL-Yageo-datasheet-148775077.pdf?src-supplier=TME; ComponentLink9URL: https://datasheet.octopart.com:443/RC0603FR-07140RL-Yageo-datasheet-79472498.pdf?src-supplier=Megastar; ComponentLink9Description: https://datasheet.octopart.com:443/RC0603FR-07140RL-Yageo-datasheet-79472498.pdf?src-supplier=Megastar; ComponentLink10URL: https://datasheet.octopart.com/RC0603FR-07140RL-Yageo-datasheet-73766026.pdf; ComponentLink10Description: https://datasheet.octopart.com/RC0603FR-07140RL-Yageo-datasheet-73766026.pdf; ComponentLink11URL: https://datasheet.octopart.com:443/RC0603FR-07140RL-Yageo-datasheet-118562.pdf?src-supplier=DigiKey; ComponentLink11Description: https://datasheet.octopart.com:443/RC0603FR-07140RL-Yageo-datasheet-118562.pdf?src-supplier=DigiKey; ComponentLink12URL: http://sigma.octopart.com:80/rohs_statement/Yageo-company-2.pdf?src-supplier=Compliance+Statements; ComponentLink12Description: http://sigma.octopart.com:80/rohs_statement/Yageo-company-2.pdf?src-supplier=Compliance+Statements; ComponentLink13URL: http://sigma.octopart.com:80/conflict_mineral_statement/Yageo-company-3.pdf?src-supplier=Compliance+Statements; ComponentLink13Description: http://sigma.octopart.com:80/conflict_mineral_statement/Yageo-company-3.pdf?src-supplier=Compliance+Statements
footprint RES_0603_1608X06 (Chip Resistor, 2-Leads, Body 1.60x0.80mm, IPC Medium Density)
pins: 1, 2

## RC0603FR-07316KL
designator R?, comment 316k 1%
100mW Thick Film Resistors 75V ±100ppm/℃ ±1% 316kΩ 0603 Chip Resistor - Surface Mount ROHS; Manufacturer: Yageo Group; Manufacturer Part Number: RC0603FR-07316KL; Temperature Coefficient: 100ppm/°C; Voltage Rating (DC): 50V; Supplier: Avnet; Supplier Part Number: 49AK2018; RoHS: Compliant; Category: Chip SMD Resistors; Stock: 2024; Pricing: 1=0.104, 25=0.010, 50=0.008, 100=0.006 (USD); Case/Package: 0603; Case Code (Imperial): 0603; China RoHS: Non-Compliant; Composition: Thick Film; Depth: 800µm; Features: Moisture Resistant; Height: 450µm; Lead Free: Lead Free; Length: 1.6mm; Lifecycle Status: Production; Max Operating Temperature: 155°C; Max Power Dissipation: 100mW; Military Standard: Not; Min Operating Temperature: -55°C; Mounting Technology: Surface Mount; Number of Terminals: 2; Number of Terminations: 2; Packaging: Tape & Reel; Power Dissipation: 100mW; Power Rating: 100mW; REACH SVHC: Yes; Value: 316kΩ; Schedule B: 8533210045, 8533210045|8533210045, 8533210045|8533210045|8533210045, 8533210045|8533210045|8533210045|8533210045; Termination: SMD/SMT; Tolerance: 1%; Voltage Rating: 75V; Width: 800µm; Working Voltage: 75V; ComponentLink1URL: https://datasheet.octopart.com:443/RC0603FR-07316KL-Yageo-datasheet-175887523.pdf?src-supplier=IHS; ComponentLink1Description: https://datasheet.octopart.com:443/RC0603FR-07316KL-Yageo-datasheet-175887523.pdf?src-supplier=IHS; ComponentLink2URL: https://datasheet.octopart.com:443/RC0603FR-07316KL-Yageo-datasheet-141265859.pdf?src-supplier=Upverter; ComponentLink2Description: https://datasheet.octopart.com:443/RC0603FR-07316KL-Yageo-datasheet-141265859.pdf?src-supplier=Upverter; ComponentLink3URL: https://datasheet.octopart.com:443/RC0603FR-07316KL-Yageo-datasheet-103092701.pdf?src-supplier=Upverter; ComponentLink3Description: https://datasheet.octopart.com:443/RC0603FR-07316KL-Yageo-datasheet-103092701.pdf?src-supplier=Upverter; ComponentLink4URL: https://sigma.octopart.com:443/138820526/technical_drawing/Yageo-RC0603FR-07316KL.pdf?src-supplier=Upverter; ComponentLink4Description: https://sigma.octopart.com:443/138820526/technical_drawing/Yageo-RC0603FR-07316KL.pdf?src-supplier=Upverter; ComponentLink5URL: https://datasheet.octopart.com:443/RC0603FR-07316KL-Yageo-Group-datasheet-189192902.pdf?src-supplier=TME; ComponentLink5Description: https://datasheet.octopart.com:443/RC0603FR-07316KL-Yageo-Group-datasheet-189192902.pdf?src-supplier=TME; ComponentLink6URL: https://datasheet.octopart.com:443/RC0603FR-07316KL-Yageo-datasheet-164759695.pdf?src-supplier=Future+Electronics; ComponentLink6Description: https://datasheet.octopart.com:443/RC0603FR-07316KL-Yageo-datasheet-164759695.pdf?src-supplier=Future+Electronics; ComponentLink7URL: https://datasheet.octopart.com:443/RC0603FR-07316KL-Yageo-datasheet-137700087.pdf?src-supplier=Future+Electronics; ComponentLink7Description: https://datasheet.octopart.com:443/RC0603FR-07316KL-Yageo-datasheet-137700087.pdf?src-supplier=Future+Electronics; ComponentLink8URL: https://datasheet.octopart.com:443/RC0603FR-07316KL-Yageo-datasheet-127823281.pdf?src-supplier=Future+Electronics; ComponentLink8Description: https://datasheet.octopart.com:443/RC0603FR-07316KL-Yageo-datasheet-127823281.pdf?src-supplier=Future+Electronics; ComponentLink9URL: https://datasheet.octopart.com:443/RC0603FR-07316KL-Yageo-datasheet-27584510.pdf?src-supplier=Future+Electronics; ComponentLink9Description: https://datasheet.octopart.com:443/RC0603FR-07316KL-Yageo-datasheet-27584510.pdf?src-supplier=Future+Electronics; ComponentLink10URL: https://datasheet.octopart.com:443/RC0603FR-07316KL-Yageo-datasheet-17842380.pdf?src-supplier=Future+Electronics; ComponentLink10Description: https://datasheet.octopart.com:443/RC0603FR-07316KL-Yageo-datasheet-17842380.pdf?src-supplier=Future+Electronics; ComponentLink11URL: https://datasheet.octopart.com:443/RC0603FR-07316KL-Yageo-datasheet-15599030.pdf?src-supplier=Future+Electronics; ComponentLink11Description: https://datasheet.octopart.com:443/RC0603FR-07316KL-Yageo-datasheet-15599030.pdf?src-supplier=Future+Electronics; ComponentLink12URL: https://datasheet.octopart.com:443/RC0603FR-07316KL-Yageo-datasheet-12596169.pdf?src-supplier=Future+Electronics; ComponentLink12Description: https://datasheet.octopart.com:443/RC0603FR-07316KL-Yageo-datasheet-12596169.pdf?src-supplier=Future+Electronics; ComponentLink13URL: https://datasheet.octopart.com:443/RC0603FR-07316KL-Yageo-datasheet-8328172.pdf?src-supplier=Future+Electronics; ComponentLink13Description: https://datasheet.octopart.com:443/RC0603FR-07316KL-Yageo-datasheet-8328172.pdf?src-supplier=Future+Electronics; ComponentLink14URL: https://datasheet.octopart.com/RC0603FR-07316KL-Yageo-datasheet-73766026.pdf; ComponentLink14Description: https://datasheet.octopart.com/RC0603FR-07316KL-Yageo-datasheet-73766026.pdf; ComponentLink15URL: https://datasheet.octopart.com:443/RC0603FR-07316KL-Yageo-datasheet-118562.pdf?src-supplier=DigiKey; ComponentLink15Description: https://datasheet.octopart.com:443/RC0603FR-07316KL-Yageo-datasheet-118562.pdf?src-supplier=DigiKey; ComponentLink16URL: http://sigma.octopart.com:80/conflict_mineral_statement/Yageo-company-3.pdf?src-supplier=Compliance+Statements; ComponentLink16Description: http://sigma.octopart.com:80/conflict_mineral_statement/Yageo-company-3.pdf?src-supplier=Compliance+Statements; ComponentLink17URL: http://sigma.octopart.com:80/rohs_statement/Yageo-company-2.pdf?src-supplier=Compliance+Statements; ComponentLink17Description: http://sigma.octopart.com:80/rohs_statement/Yageo-company-2.pdf?src-supplier=Compliance+Statements
footprint RES_0603_1608X06 (Chip Resistor, 2-Leads, Body 1.60x0.80mm, IPC Medium Density)
pins: 1, 2

## RMCP0603FT1K00
designator R?
MP: RMCP0603FT1K00; Package: None; Price: None; Value: *; Availability: Unavailable
footprint RES_0603_1608X06
pins: 1, 2

## TF13BA-10S-0.4SH(800)
designator J?
MP: TF13BA-10S-0.4SH(800); Value: *; Availability: Unavailable; Package: None; Price: None
footprint HRS_TF13BA-10S-0.4SH(800)
pins: 1, 2, 3, 4, 5, 6, 7, 8, 9, 10